# EAGLE library part STELLARISLAUNCHPAD_CONNECTED (library StellarisLaunchPadConnected)
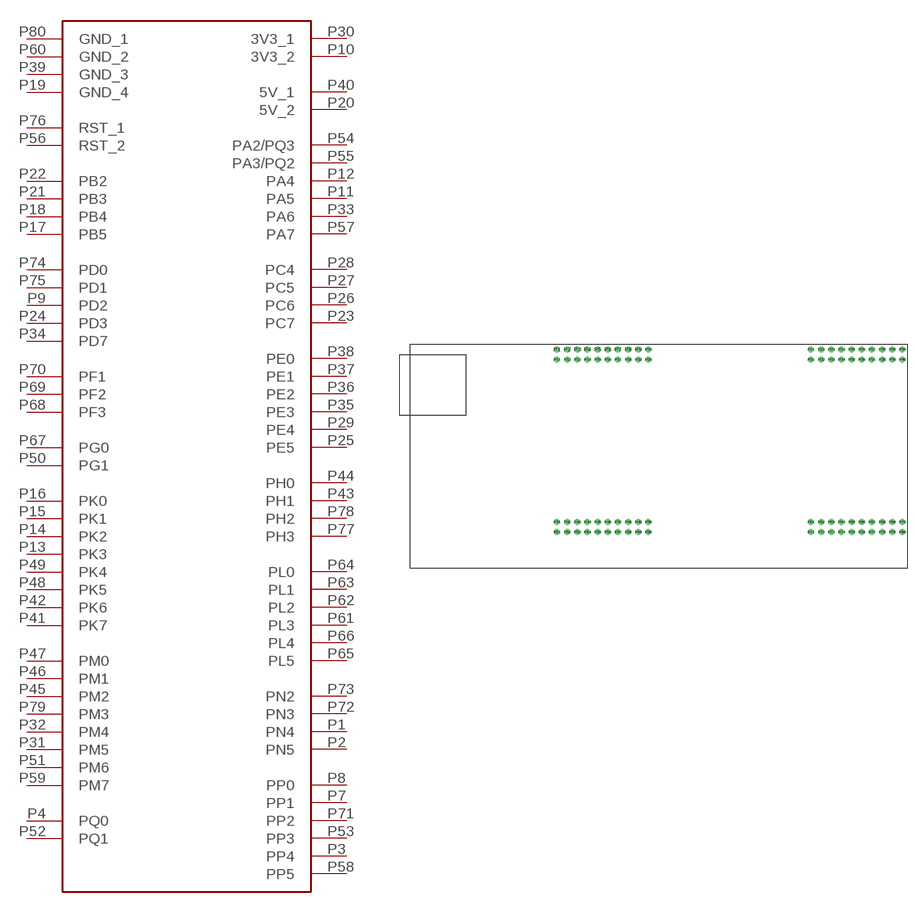
[diagram p0: symbol with the pads of STELLARISLAUNCHPAD_CONNECTED; footprint STELLARISLAUNCHPAD_CONNECTED]

Designator prefix -

## STELLARISLAUNCHPAD_CONNECTED  [STELLARISLAUNCHPAD_CONNECTED]
P1  PN4
P2  PN5
P3  PP4
P4  PQ0
P7  PP1
P8  PP0
P9  PD2
P10  3V3_2
P11  PA5
P12  PA4
P13  PK3
P14  PK2
P15  PK1
P16  PK0
P17  PB5
P18  PB4
P19  GND_4
P20  5V_2
P21  PB3
P22  PB2
P23  PC7
P24  PD3
P25  PE5
P26  PC6
P27  PC5
P28  PC4
P29  PE4
P30  3V3_1
P31  PM5
P32  PM4
P33  PA6
P34  PD7
P35  PE3
P36  PE2
P37  PE1
P38  PE0
P39  GND_3
P40  5V_1
P41  PK7
P42  PK6
P43  PH1
P44  PH0
P45  PM2
P46  PM1
P47  PM0
P48  PK5
P49  PK4
P50  PG1
P51  PM6
P52  PQ1
P53  PP3
P54  PA2/PQ3
P55  PA3/PQ2
P56  RST_2
P57  PA7
P58  PP5
P59  PM7
P60  GND_2
P61  PL3
P62  PL2
P63  PL1
P64  PL0
P65  PL5
P66  PL4
P67  PG0
P68  PF3
P69  PF2
P70  PF1
P71  PP2
P72  PN3
P73  PN2
P74  PD0
P75  PD1
P76  RST_1
P77  PH3
P78  PH2
P79  PM3
P80  GND_1

## Footprint STELLARISLAUNCHPAD_CONNECTED (pad centres in mm)
drill 1: P1 36.83,54.61; P2 39.37,54.61; P3 41.91,54.61; P4 44.45,54.61; P5 46.99,54.61; P6 49.53,54.61; P7 52.07,54.61; P8 54.61,54.61; P9 57.15,54.61; P10 59.69,54.61; P11 36.83,52.07; P12 39.37,52.07; P13 41.91,52.07; P14 44.45,52.07; P15 46.99,52.07; P16 49.53,52.07; P17 52.07,52.07; P18 54.61,52.07; P19 57.15,52.07; P20 59.69,52.07; P21 100.33,54.61; P22 102.87,54.61; P23 105.41,54.61; P24 107.95,54.61; P25 110.49,54.61; P26 113.03,54.61; P27 115.57,54.61; P28 118.11,54.61; P29 120.65,54.61; P30 123.19,54.61; P31 100.33,52.07; P32 102.87,52.07; P33 105.41,52.07; P34 107.95,52.07; P35 110.49,52.07; P36 113.03,52.07; P37 115.57,52.07; P38 118.11,52.07; P39 120.65,52.07; P40 123.19,52.07; P41 36.83,11.43; P42 39.37,11.43; P43 41.91,11.43; P44 44.45,11.43; P45 46.99,11.43; P46 49.53,11.43; P47 52.07,11.43; P48 54.61,11.43; P49 57.15,11.43; P50 59.69,11.43; P51 36.83,8.89; P52 39.37,8.89; P53 41.91,8.89; P54 44.45,8.89; P55 46.99,8.89; P56 49.53,8.89; P57 52.07,8.89; P58 54.61,8.89; P59 57.15,8.89; P60 59.69,8.89; P61 100.33,11.43; P62 102.87,11.43; P63 105.41,11.43; P64 107.95,11.43; P65 110.49,11.43; P66 113.03,11.43; P67 115.57,11.43; P68 118.11,11.43; P69 120.65,11.43; P70 123.19,11.43; P71 100.33,8.89; P72 102.87,8.89; P73 105.41,8.89; P74 107.95,8.89; P75 110.49,8.89; P76 113.03,8.89; P77 115.57,8.89; P78 118.11,8.89; P79 120.65,8.89; P80 123.19,8.89